# Altium schematic symbol library Capacitor.SchLib: 6 symbols
Pins are listed as number, name and electrical type; pins without a type are passive.

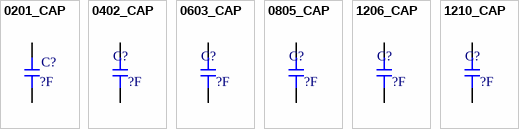
[diagram p0: symbols 0201_CAP to 1210_CAP]

## 0201_CAP
designator C?, comment ?F
Part Number: GCM033R71A103KA03D; Manufacturer: Murata Electronics North America; Factory Stock: 0; Unit Price (USD): 0.1; Minimum Quantity: 1; Tolerance: ±10%; Voltage: 10V; Temperature Coefficient: X7R; Datasheets: http://www.murata.com/~/media/webrenewal/support/library/catalog/products/capacitor/mlcc/c03e.ashx; Image: //media.digikey.com/Renders/Murata%20Renders/0201-0603.jpg; Digi-Key Part Number: 490-6040-1-ND; Quantity Available: 388635; @ qty: 0; Packaging: Cut Tape (CT); Series: GCM; Part Status: Active; Operating Temperature: -55°C ~ 125°C; Features: -; Ratings: AEC-Q200; Applications: Automotive; Failure Rate: Surface Mount, MLCC; Mounting Type: 0201 (0603 Metric); Package / Case: 0.024" L x 0.012" W (0.60mm x 0.30mm); Size / Dimension: -; Height - Seated (Max): 0.013" (0.33mm); Thickness (Max): -; Lead Spacing: -; Value: ?F
footprint 0201_CAP
pins: 1, 2

## 0402_CAP
designator C?  value ?F  (hidden comment: *)
footprint 0402_CAP
pins: 1, 2

## 0603_CAP
designator C?  value ?F  (hidden comment: *)
footprint 0603_CAP
pins: 1, 2

## 0805_CAP
designator C?  value ?F  (hidden comment: *)
footprint 0805_CAP
pins: 1, 2

## 1206_CAP
designator C?  value ?F  (hidden comment: *)
footprint 1206_CAP
pins: 1, 2

## 1210_CAP
designator C?  value ?F  (hidden comment: *)
footprint 1210_CAP
pins: 1, 2